# Altium schematic symbol library RJ45jacks.SchLib: 1 symbol
Pins are listed as number, name and electrical type; pins without a type are passive.

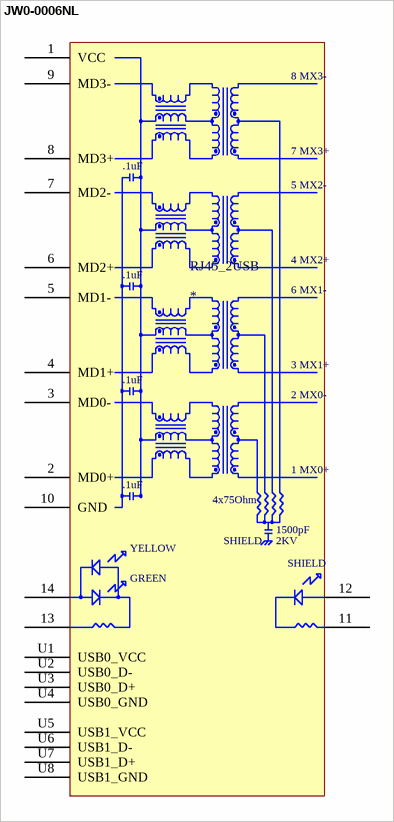
[diagram p0: symbol JW0-0006NL]

## JW0-0006NL
designator RJ45_2USB
RJ45 + 2USB; Digikey Part Number: 553-1368-ND
footprint RJ45+2USB (RJ45 + 2 USB)
pins: 1 VCC, 2 MD0+, 3 MD0-, 4 MD1+, 5 MD1-, 6 MD2+, 7 MD2-, 8 MD3+, 9 MD3-, 10 GND, 11 LED1, 12 LED2, 13 LED3, 14 LED4, U1 USB0_VCC, U2 USB0_D-, U3 USB0_D+, U4 USB0_GND, U5 USB1_VCC, U6 USB1_D-, U7 USB1_D+, U8 USB1_GND
text: 8 MX3-; 7 MX3+; .1uF; 5 MX2-; 4 MX2+; 6 MX1-; 3 MX1+; 2 MX0-; 1 MX0+; 4x75Ohm; 1500pF; YELLOW; SHIELD; 2KV; GREEN